# Altium integrated library IR Rectifier - Ultrafast Recovery.IntLib: 68 symbols (part 1 of 2)
Pins are listed as number, name and electrical type; pins without a type are passive.

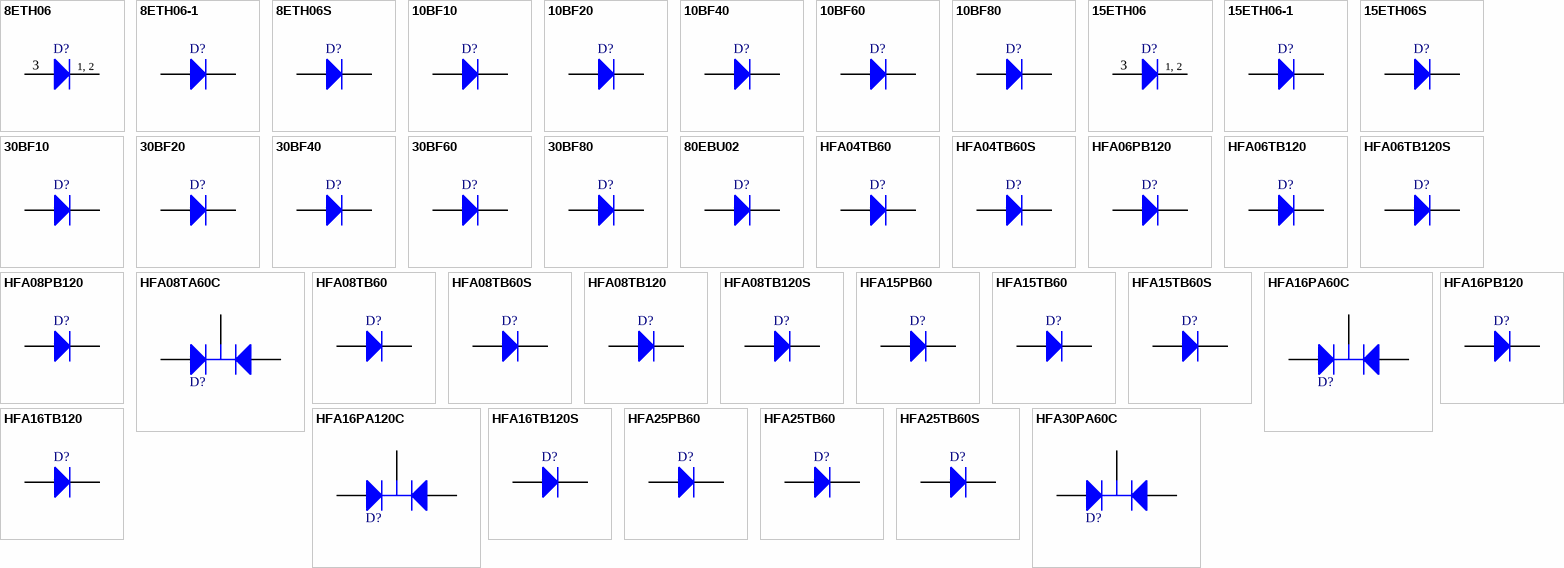
[diagram p0: symbols 8ETH06 to HFA30PA60C]

## 8ETH06
designator D?
Hyperfast Rectifier; Published: 17-Sep-2003; DatasheetVersion: Aug-2001; PackageVersion: Feb-1998; PackageReference: TO-220AC; Publisher: Altium Limited; PackageDescription: TO, Thru-Hole, Vertical, Heatsink Mounted; 3 In-Line Leads (1 Absent); Pitch 2.54 mm; ComponentLink1Description: Manufacturer Link; ComponentLink1URL: http://www.irf.com/; ComponentLink2Description: Datasheet; ComponentLink2URL: http://www.irf.com/product-info/datasheets/data/8ETH06.pdf
footprint TO-220AC (TO, Thru-Hole, Vertical, Heatsink Mounted; 3 In-Line Leads (1 Absent); Pitch 2.54 mm)
simulation model 8ETH06 (DIODE)
pins: 1 K, 2 K, 3 A
text: 1, 2

## 8ETH06-1
designator D?
Hyperfast Rectifier; Note: Pin 1 is not connected and not drawn; Published: 17-Sep-2003; DatasheetVersion: Aug-2001; PackageReference: TO-262; Publisher: Altium Limited; PackageDescription: TO, Thru-Hole, Vertical, Heatsink Mounted; 3 In-Line Leads; Pitch 2.54 mm; ComponentLink1Description: Manufacturer Link; ComponentLink1URL: http://www.irf.com/; ComponentLink2Description: Datasheet; ComponentLink2URL: http://www.irf.com/product-info/datasheets/data/8ETH06.pdf
footprint TO-262 (TO, Thru-Hole, Vertical, Heatsink Mounted; 3 In-Line Leads; Pitch 2.54 mm)
pins: 2 K, 3 A

## 8ETH06S
designator D?
Hyperfast Rectifier; Note: Pin 1 is not connected and not drawn; Published: 17-Sep-2003; DatasheetVersion: Aug-2001; PackageReference: D2PAK; Publisher: Altium Limited; PackageDescription: 3-Pin Transistor Outline Package 2.54 mm Pitch, 15.1 mm Lead Span; ComponentLink1Description: Manufacturer Link; ComponentLink1URL: http://www.irf.com/; ComponentLink2Description: Datasheet; ComponentLink2URL: http://www.irf.com/product-info/datasheets/data/8ETH06.pdf
footprint D2PAK_N (D2-PAK, 4-Leads, Body 8.8x10.4mm, Pitch 2.54mm, Lead Span 15.1mm, IPC Medium Density)
footprint D2PAK_L (D2-PAK, 4-Leads, Body 8.8x10.4mm, Pitch 2.54mm, Lead Span 15.1mm, IPC High Density)
footprint D2PAK_M (D2-PAK, 4-Leads, Body 8.8x10.4mm, Pitch 2.54mm, Lead Span 15.1mm, IPC Low Density)
pins: 2 K, 3 A

## 10BF10
designator D?
Surface Mountable Ultrafast Recovery Diode; Published: 8-Jun-2000; LatestRevisionDate: 17-Jul-2002; LatestRevisionNote: Re-released for DXP Platform.; DatasheetVersion: Jun-1999; PackageReference: SMB; Publisher: Altium Limited; PackageDescription: DO-214-AA/SMB; 2 C-Bend Leads; Body 5.3 x 3.6 mm, inc. leads (LxW); ComponentLink1Description: Manufacturer Link; ComponentLink1URL: http://www.irf.com/; ComponentLink2Description: Datasheet; ComponentLink2URL: http://www.irf.com/product-info/datasheets/data/10bf.pdf
footprint SMB (DO-214-AA/SMB; 2 C-Bend Leads; Body 5.3 x 3.6 mm, inc. leads (LxW))
signal-integrity model 10BF10
pins: 1 A, 2 K

## 10BF20
designator D?
Surface Mountable Ultrafast Recovery Diode; Published: 8-Jun-2000; LatestRevisionDate: 17-Jul-2002; LatestRevisionNote: Re-released for DXP Platform.; DatasheetVersion: Jun-1999; PackageReference: SMB; Publisher: Altium Limited; PackageDescription: DO-214-AA/SMB; 2 C-Bend Leads; Body 5.3 x 3.6 mm, inc. leads (LxW); ComponentLink1Description: Manufacturer Link; ComponentLink1URL: http://www.irf.com/; ComponentLink2Description: Datasheet; ComponentLink2URL: http://www.irf.com/product-info/datasheets/data/10bf.pdf
footprint SMB (DO-214-AA/SMB; 2 C-Bend Leads; Body 5.3 x 3.6 mm, inc. leads (LxW))
signal-integrity model 10BF20
pins: 1 A, 2 K

## 10BF40
designator D?
Surface Mountable Ultrafast Recovery Diode; Published: 8-Jun-2000; LatestRevisionDate: 17-Jul-2002; LatestRevisionNote: Re-released for DXP Platform.; DatasheetVersion: Jun-1999; PackageReference: SMB; Publisher: Altium Limited; PackageDescription: DO-214-AA/SMB; 2 C-Bend Leads; Body 5.3 x 3.6 mm, inc. leads (LxW); ComponentLink1Description: Manufacturer Link; ComponentLink1URL: http://www.irf.com/; ComponentLink2Description: Datasheet; ComponentLink2URL: http://www.irf.com/product-info/datasheets/data/10bf.pdf
footprint SMB (DO-214-AA/SMB; 2 C-Bend Leads; Body 5.3 x 3.6 mm, inc. leads (LxW))
signal-integrity model 10BF40
pins: 1 A, 2 K

## 10BF60
designator D?
Surface Mountable Ultrafast Recovery Diode; Published: 8-Jun-2000; LatestRevisionDate: 17-Jul-2002; LatestRevisionNote: Re-released for DXP Platform.; DatasheetVersion: Jun-1999; PackageReference: SMB; Publisher: Altium Limited; PackageDescription: DO-214-AA/SMB; 2 C-Bend Leads; Body 5.3 x 3.6 mm, inc. leads (LxW); ComponentLink1Description: Manufacturer Link; ComponentLink1URL: http://www.irf.com/; ComponentLink2Description: Datasheet; ComponentLink2URL: http://www.irf.com/product-info/datasheets/data/10bf.pdf
footprint SMB (DO-214-AA/SMB; 2 C-Bend Leads; Body 5.3 x 3.6 mm, inc. leads (LxW))
signal-integrity model 10BF60
pins: 1 A, 2 K

## 10BF80
designator D?
Surface Mountable Ultrafast Recovery Diode; Published: 8-Jun-2000; LatestRevisionDate: 17-Jul-2002; LatestRevisionNote: Re-released for DXP Platform.; DatasheetVersion: Jun-1999; PackageReference: SMB; Publisher: Altium Limited; PackageDescription: DO-214-AA/SMB; 2 C-Bend Leads; Body 5.3 x 3.6 mm, inc. leads (LxW); ComponentLink1Description: Manufacturer Link; ComponentLink1URL: http://www.irf.com/; ComponentLink2Description: Datasheet; ComponentLink2URL: http://www.irf.com/product-info/datasheets/data/10bf.pdf
footprint SMB (DO-214-AA/SMB; 2 C-Bend Leads; Body 5.3 x 3.6 mm, inc. leads (LxW))
signal-integrity model 10BF80
pins: 1 A, 2 K

## 15ETH06
designator D?
Hyperfast Rectifier; Published: 17-Sep-2003; DatasheetVersion: Aug-2001; PackageVersion: Feb-1998; PackageReference: TO-220AC; Publisher: Altium Limited; PackageDescription: TO, Thru-Hole, Vertical, Heatsink Mounted; 3 In-Line Leads (1 Absent); Pitch 2.54 mm; ComponentLink1Description: Manufacturer Link; ComponentLink1URL: http://www.irf.com/; ComponentLink2Description: Datasheet; ComponentLink2URL: http://www.irf.com/product-info/datasheets/data/15ETH06.pdf
footprint TO-220AC (TO, Thru-Hole, Vertical, Heatsink Mounted; 3 In-Line Leads (1 Absent); Pitch 2.54 mm)
simulation model 15ETH06 (DIODE)
pins: 1 K, 2 K, 3 A
text: 1, 2

## 15ETH06-1
designator D?
Hyperfast Rectifier; Note: Pin 1 is not connected and not drawn; Published: 17-Sep-2003; DatasheetVersion: Rev. D, 1/08/2001; PackageReference: TO-262; Publisher: Altium Limited; PackageDescription: TO, Thru-Hole, Vertical, Heatsink Mounted; 3 In-Line Leads; Pitch 2.54 mm; ComponentLink1Description: Manufacturer Link; ComponentLink1URL: http://www.irf.com/; ComponentLink2Description: Datasheet; ComponentLink2URL: http://www.irf.com/product-info/datasheets/data/15ETH06.pdf
footprint TO-262 (TO, Thru-Hole, Vertical, Heatsink Mounted; 3 In-Line Leads; Pitch 2.54 mm)
pins: 2 K, 3 A

## 15ETH06S
designator D?
Hyperfast Rectifier; Note: Pin 1 is not connected and not drawn; Published: 17-Sep-2003; DatasheetVersion: Rev. D, 1/08/2001; PackageReference: D2PAK; Publisher: Altium Limited; PackageDescription: 3-Pin Transistor Outline Package 2.54 mm Pitch, 15.1 mm Lead Span; ComponentLink1Description: Manufacturer Link; ComponentLink1URL: http://www.irf.com/; ComponentLink2Description: Datasheet; ComponentLink2URL: http://www.irf.com/product-info/datasheets/data/15ETH06.pdf
footprint D2PAK_N (D2-PAK, 4-Leads, Body 8.8x10.4mm, Pitch 2.54mm, Lead Span 15.1mm, IPC Medium Density)
footprint D2PAK_L (D2-PAK, 4-Leads, Body 8.8x10.4mm, Pitch 2.54mm, Lead Span 15.1mm, IPC High Density)
footprint D2PAK_M (D2-PAK, 4-Leads, Body 8.8x10.4mm, Pitch 2.54mm, Lead Span 15.1mm, IPC Low Density)
pins: 2 K, 3 A

## 30BF10
designator D?
Surface Mountable Ultrafast Recovery Diode; Published: 8-Jun-2000; LatestRevisionDate: 17-Jul-2002; LatestRevisionNote: Re-released for DXP Platform.; DatasheetVersion: Jul-1999; PackageReference: SMC; Publisher: Altium Limited; PackageDescription: DO-214-AB/SMC; 2 C-Bend Leads; Body 7.9 x 5.9 mm, inc. leads (LxW); Code_JEDEC: DO-214-AB; ComponentLink1Description: Manufacturer Link; ComponentLink1URL: http://www.irf.com/; ComponentLink2Description: Datasheet; ComponentLink2URL: http://www.irf.com/product-info/datasheets/data/30bf.pdf
footprint SMC (DO-214-AB/SMC; 2 C-Bend Leads; Body 7.9 x 5.9 mm, inc. leads (LxW))
signal-integrity model 30BF10
pins: 1 A, 2 K

## 30BF20
designator D?
Surface Mountable Ultrafast Recovery Diode; Published: 8-Jun-2000; LatestRevisionDate: 17-Jul-2002; LatestRevisionNote: Re-released for DXP Platform.; DatasheetVersion: Jul-1999; PackageReference: SMC; Publisher: Altium Limited; PackageDescription: DO-214-AB/SMC; 2 C-Bend Leads; Body 7.9 x 5.9 mm, inc. leads (LxW); Code_JEDEC: DO-214-AB; ComponentLink1Description: Manufacturer Link; ComponentLink1URL: http://www.irf.com/; ComponentLink2Description: Datasheet; ComponentLink2URL: http://www.irf.com/product-info/datasheets/data/30bf.pdf
footprint SMC (DO-214-AB/SMC; 2 C-Bend Leads; Body 7.9 x 5.9 mm, inc. leads (LxW))
signal-integrity model 30BF20
pins: 1 A, 2 K

## 30BF40
designator D?
Surface Mountable Ultrafast Recovery Diode; Published: 8-Jun-2000; LatestRevisionDate: 17-Jul-2002; LatestRevisionNote: Re-released for DXP Platform.; DatasheetVersion: Jul-1999; PackageReference: SMC; Publisher: Altium Limited; PackageDescription: DO-214-AB/SMC; 2 C-Bend Leads; Body 7.9 x 5.9 mm, inc. leads (LxW); Code_JEDEC: DO-214-AB; ComponentLink1Description: Manufacturer Link; ComponentLink1URL: http://www.irf.com/; ComponentLink2Description: Datasheet; ComponentLink2URL: http://www.irf.com/product-info/datasheets/data/30bf.pdf
footprint SMC (DO-214-AB/SMC; 2 C-Bend Leads; Body 7.9 x 5.9 mm, inc. leads (LxW))
signal-integrity model 30BF40
pins: 1 A, 2 K

## 30BF60
designator D?
Surface Mountable Ultrafast Recovery Diode; Published: 8-Jun-2000; LatestRevisionDate: 17-Jul-2002; LatestRevisionNote: Re-released for DXP Platform.; DatasheetVersion: Jul-1999; PackageReference: SMC; Publisher: Altium Limited; PackageDescription: DO-214-AB/SMC; 2 C-Bend Leads; Body 7.9 x 5.9 mm, inc. leads (LxW); Code_JEDEC: DO-214-AB; ComponentLink1Description: Manufacturer Link; ComponentLink1URL: http://www.irf.com/; ComponentLink2Description: Datasheet; ComponentLink2URL: http://www.irf.com/product-info/datasheets/data/30bf.pdf
footprint SMC (DO-214-AB/SMC; 2 C-Bend Leads; Body 7.9 x 5.9 mm, inc. leads (LxW))
signal-integrity model 30BF60
pins: 1 A, 2 K

## 30BF80
designator D?
Surface Mountable Ultrafast Recovery Diode; Published: 8-Jun-2000; LatestRevisionDate: 17-Jul-2002; LatestRevisionNote: Re-released for DXP Platform.; DatasheetVersion: Jul-1999; PackageReference: SMC; Publisher: Altium Limited; PackageDescription: DO-214-AB/SMC; 2 C-Bend Leads; Body 7.9 x 5.9 mm, inc. leads (LxW); Code_JEDEC: DO-214-AB; ComponentLink1Description: Manufacturer Link; ComponentLink1URL: http://www.irf.com/; ComponentLink2Description: Datasheet; ComponentLink2URL: http://www.irf.com/product-info/datasheets/data/30bf.pdf
footprint SMC (DO-214-AB/SMC; 2 C-Bend Leads; Body 7.9 x 5.9 mm, inc. leads (LxW))
signal-integrity model 30BF80
pins: 1 A, 2 K

## 80EBU02
designator D?
Ultrafast, Soft Recovery Diode; Published: 17-Sep-2003; DatasheetVersion: Jan-2001; PackageReference: PowIRtab; Publisher: Altium Limited; ComponentLink1Description: Manufacturer Link; ComponentLink1URL: http://www.irf.com/; ComponentLink2Description: Datasheet; ComponentLink2URL: http://www.irf.com/product-info/datasheets/data/80EBU02.pdf
simulation model 80EBU02 (DIODE)
pins: 1 K, 2 A

## HFA04TB60
designator D?
Ultrafast, Soft Recovery Diode; Note: Terminal 2 is the TAB and is electrically connected to the cathode; Published: 8-Jun-2000; LatestRevisionDate: 17-Jul-2002; LatestRevisionNote: Re-released for DXP Platform.; DatasheetVersion: Apr-1997; PackageVersion: Feb-1998; PackageReference: TO-220AC; Publisher: Altium Limited; PackageDescription: TO, Thru-Hole, Vertical, Heatsink Mounted; 3 In-Line Leads (1 Absent); Pitch 2.54 mm; ComponentLink1Description: Manufacturer Link; ComponentLink1URL: http://www.irf.com/; ComponentLink2Description: Datasheet; ComponentLink2URL: http://www.irf.com/product-info/datasheets/data/hfa04tb60.pdf
footprint TO-220AC (TO, Thru-Hole, Vertical, Heatsink Mounted; 3 In-Line Leads (1 Absent); Pitch 2.54 mm)
simulation model HFA04TB60 (SUBCKT)
signal-integrity model HFA04TB60
pins: 1 K, 3 A

## HFA04TB60S
designator D?
Ultrafast, Soft Recovery Diode; Note: Pin 1 is not connected and not drawn; Published: 8-Jun-2000; LatestRevisionDate: 17-Jul-2002; LatestRevisionNote: Re-released for DXP Platform.; DatasheetVersion: Jan-1999; PackageReference: D2PAK; Publisher: Altium Limited; PackageDescription: 3-Pin Transistor Outline Package 2.54 mm Pitch, 15.1 mm Lead Span; ComponentLink1Description: Manufacturer Link; ComponentLink1URL: http://www.irf.com/; ComponentLink2Description: Datasheet; ComponentLink2URL: http://www.irf.com/product-info/datasheets/data/hfa04tb60s.pdf
footprint D2PAK_N (D2-PAK, 4-Leads, Body 8.8x10.4mm, Pitch 2.54mm, Lead Span 15.1mm, IPC Medium Density)
footprint D2PAK_L (D2-PAK, 4-Leads, Body 8.8x10.4mm, Pitch 2.54mm, Lead Span 15.1mm, IPC High Density)
footprint D2PAK_M (D2-PAK, 4-Leads, Body 8.8x10.4mm, Pitch 2.54mm, Lead Span 15.1mm, IPC Low Density)
signal-integrity model HFA04TB60S
pins: 2 K, 3 A

## HFA06PB120
designator D?
Ultrafast, Soft Recovery Diode; Note: Pin 2 is missing from package and is not drawn; Published: 8-Jun-2000; LatestRevisionDate: 17-Jul-2002; LatestRevisionNote: Re-released for DXP Platform.; DatasheetVersion: Apr-1999; PackageVersion: Sep-1997; PackageReference: TO-247AC_A; Publisher: Altium Limited; PackageDescription: SIP with Mounting Hole; 2 Leads; Body 20 x 15.6 x 5 mm (typ); ComponentLink1Description: Manufacturer Link; ComponentLink1URL: http://www.irf.com/; ComponentLink2Description: Datasheet; ComponentLink2URL: http://www.irf.com/product-info/datasheets/data/hfa06pb120.pdf
footprint TO-247AC_A (SIP with Mounting Hole; 2 Leads; Body 20 x 15.6 x 5 mm (typ))
signal-integrity model HFA06PB120
pins: 1 K, 3 A

## HFA06TB120
designator D?
Ultrafast, Soft Recovery Diode; Note: Terminal 2 is the TAB and is electrically connected to the cathode; Published: 8-Jun-2000; LatestRevisionDate: 17-Jul-2002; LatestRevisionNote: Re-released for DXP Platform.; DatasheetVersion: Apr-1999; PackageVersion: Feb-1998; PackageReference: TO-220AC; Publisher: Altium Limited; PackageDescription: TO, Thru-Hole, Vertical, Heatsink Mounted; 3 In-Line Leads (1 Absent); Pitch 2.54 mm; ComponentLink1Description: Manufacturer Link; ComponentLink1URL: http://www.irf.com/; ComponentLink2Description: Datasheet; ComponentLink2URL: http://www.irf.com/product-info/datasheets/data/hfa06tb120.pdf
footprint TO-220AC (TO, Thru-Hole, Vertical, Heatsink Mounted; 3 In-Line Leads (1 Absent); Pitch 2.54 mm)
simulation model HFA06TB120 (DIODE)
signal-integrity model HFA06TB120
pins: 1 K, 3 A

## HFA06TB120S
designator D?
Ultrafast, Soft Recovery Diode; Note: Pin 1 is not connected and not drawn; Published: 8-Jun-2000; LatestRevisionDate: 17-Jul-2002; LatestRevisionNote: Re-released for DXP Platform.; DatasheetVersion: Jan-1999; PackageReference: D2PAK; Publisher: Altium Limited; PackageDescription: 3-Pin Transistor Outline Package 2.54 mm Pitch, 15.1 mm Lead Span; ComponentLink1Description: Manufacturer Link; ComponentLink1URL: http://www.irf.com/; ComponentLink2Description: Datasheet; ComponentLink2URL: http://www.irf.com/product-info/datasheets/data/hfa06tb120s.pdf
footprint D2PAK_N (D2-PAK, 4-Leads, Body 8.8x10.4mm, Pitch 2.54mm, Lead Span 15.1mm, IPC Medium Density)
footprint D2PAK_L (D2-PAK, 4-Leads, Body 8.8x10.4mm, Pitch 2.54mm, Lead Span 15.1mm, IPC High Density)
footprint D2PAK_M (D2-PAK, 4-Leads, Body 8.8x10.4mm, Pitch 2.54mm, Lead Span 15.1mm, IPC Low Density)
signal-integrity model HFA06TB120S
pins: 2 K, 3 A

## HFA08PB120
designator D?
Ultrafast, Soft Recovery Diode; Note: Pin 2 is missing from package and is not drawn; Published: 8-Jun-2000; LatestRevisionDate: 17-Jul-2002; LatestRevisionNote: Re-released for DXP Platform.; DatasheetVersion: May-1997; PackageVersion: Sep-1997; PackageReference: TO-247AC_A; Publisher: Altium Limited; PackageDescription: SIP with Mounting Hole; 2 Leads; Body 20 x 15.6 x 5 mm (typ); ComponentLink1Description: Manufacturer Link; ComponentLink1URL: http://www.irf.com/; ComponentLink2Description: Datasheet; ComponentLink2URL: http://www.irf.com/product-info/datasheets/data/hfa08pb120.pdf
footprint TO-247AC_A (SIP with Mounting Hole; 2 Leads; Body 20 x 15.6 x 5 mm (typ))
simulation model HFA08PB120 (SUBCKT)
signal-integrity model HFA08PB120
pins: 1 K, 3 A

## HFA08TA60C
designator D?
Ultrafast, Soft Recovery Diode; Published: 8-Jun-2000; LatestRevisionDate: 17-Jul-2002; LatestRevisionNote: Re-released for DXP Platform.; DatasheetVersion: Apr-1997; PackageVersion: Feb-1997; PackageReference: TO-220AB; Publisher: Altium Limited; PackageDescription: TO, Thru-Hole, Vertical, Heatsink Mounted; 3 In-Line Leads; Pitch 2.54 mm; ComponentLink1Description: Manufacturer Link; ComponentLink1URL: http://www.irf.com/; ComponentLink2Description: Datasheet; ComponentLink2URL: http://www.irf.com/product-info/datasheets/data/hfa08ta60c.pdf
footprint TO-220AB (TO, Thru-Hole, Vertical, Heatsink Mounted; 3 In-Line Leads; Pitch 2.54 mm)
signal-integrity model HFA08TA60C
pins: 1 A1, 2 K, 3 A2

## HFA08TB60
designator D?
Ultrafast, Soft Recovery Diode; Note: Terminal 2 is the TAB and is electrically connected to the cathode; Published: 8-Jun-2000; LatestRevisionDate: 17-Jul-2002; LatestRevisionNote: Re-released for DXP Platform.; DatasheetVersion: Apr-1997; PackageVersion: Feb-1998; PackageReference: TO-220AC; Publisher: Altium Limited; PackageDescription: TO, Thru-Hole, Vertical, Heatsink Mounted; 3 In-Line Leads (1 Absent); Pitch 2.54 mm; ComponentLink1Description: Manufacturer Link; ComponentLink1URL: http://www.irf.com/; ComponentLink2Description: Datasheet; ComponentLink2URL: http://www.irf.com/product-info/datasheets/data/hfa08tb60.pdf
footprint TO-220AC (TO, Thru-Hole, Vertical, Heatsink Mounted; 3 In-Line Leads (1 Absent); Pitch 2.54 mm)
simulation model HFA08TB60 (DIODE)
signal-integrity model HFA08TB60
pins: 1 K, 3 A

## HFA08TB60S
designator D?
Ultrafast, Soft Recovery Diode; Note: Pin 1 is not connected and not drawn; Published: 8-Jun-2000; LatestRevisionDate: 17-Jul-2002; LatestRevisionNote: Re-released for DXP Platform.; DatasheetVersion: Jan-1999; PackageReference: D2PAK; Publisher: Altium Limited; PackageDescription: 3-Pin Transistor Outline Package 2.54 mm Pitch, 15.1 mm Lead Span; ComponentLink1Description: Manufacturer Link; ComponentLink1URL: http://www.irf.com/; ComponentLink2Description: Datasheet; ComponentLink2URL: http://www.irf.com/product-info/datasheets/data/hfa08tb60s.pdf
footprint D2PAK_N (D2-PAK, 4-Leads, Body 8.8x10.4mm, Pitch 2.54mm, Lead Span 15.1mm, IPC Medium Density)
footprint D2PAK_L (D2-PAK, 4-Leads, Body 8.8x10.4mm, Pitch 2.54mm, Lead Span 15.1mm, IPC High Density)
footprint D2PAK_M (D2-PAK, 4-Leads, Body 8.8x10.4mm, Pitch 2.54mm, Lead Span 15.1mm, IPC Low Density)
signal-integrity model HFA08TB60S
pins: 2 K, 3 A

## HFA08TB120
designator D?
Ultrafast, Soft Recovery Diode; Note: Terminal 2 is the TAB and is electrically connected to the cathode; Published: 8-Jun-2000; LatestRevisionDate: 17-Jul-2002; LatestRevisionNote: Re-released for DXP Platform.; DatasheetVersion: May-1997; PackageVersion: Feb-1998; PackageReference: TO-220AC; Publisher: Altium Limited; PackageDescription: TO, Thru-Hole, Vertical, Heatsink Mounted; 3 In-Line Leads (1 Absent); Pitch 2.54 mm; ComponentLink1Description: Manufacturer Link; ComponentLink1URL: http://www.irf.com/; ComponentLink2Description: Datasheet; ComponentLink2URL: http://www.irf.com/product-info/datasheets/data/hfa08tb120.pdf
footprint TO-220AC (TO, Thru-Hole, Vertical, Heatsink Mounted; 3 In-Line Leads (1 Absent); Pitch 2.54 mm)
signal-integrity model HFA08TB120
pins: 1 K, 3 A

## HFA08TB120S
designator D?
Ultrafast, Soft Recovery Diode; Note: Pin 1 is not connected and not drawn; Published: 8-Jun-2000; LatestRevisionDate: 17-Jul-2002; LatestRevisionNote: Re-released for DXP Platform.; DatasheetVersion: Jan-1999; PackageReference: D2PAK; Publisher: Altium Limited; PackageDescription: 3-Pin Transistor Outline Package 2.54 mm Pitch, 15.1 mm Lead Span; ComponentLink1Description: Manufacturer Link; ComponentLink1URL: http://www.irf.com/; ComponentLink2Description: Datasheet; ComponentLink2URL: http://www.irf.com/product-info/datasheets/data/hfa08tb120s.pdf
footprint D2PAK_N (D2-PAK, 4-Leads, Body 8.8x10.4mm, Pitch 2.54mm, Lead Span 15.1mm, IPC Medium Density)
footprint D2PAK_L (D2-PAK, 4-Leads, Body 8.8x10.4mm, Pitch 2.54mm, Lead Span 15.1mm, IPC High Density)
footprint D2PAK_M (D2-PAK, 4-Leads, Body 8.8x10.4mm, Pitch 2.54mm, Lead Span 15.1mm, IPC Low Density)
signal-integrity model HFA08TB120S
pins: 2 K, 3 A

## HFA15PB60
designator D?
Ultrafast, Soft Recovery Diode; Note: Pin 2 is missing from package and is not drawn; Published: 8-Jun-2000; LatestRevisionDate: 17-Jul-2002; LatestRevisionNote: Re-released for DXP Platform.; DatasheetVersion: Apr-1997; PackageVersion: Sep-1997; PackageReference: TO-247AC_A; Publisher: Altium Limited; PackageDescription: SIP with Mounting Hole; 2 Leads; Body 20 x 15.6 x 5 mm (typ); ComponentLink1Description: Manufacturer Link; ComponentLink1URL: http://www.irf.com/; ComponentLink2Description: Datasheet; ComponentLink2URL: http://www.irf.com/product-info/datasheets/data/hfa15pb60.pdf
footprint TO-247AC_A (SIP with Mounting Hole; 2 Leads; Body 20 x 15.6 x 5 mm (typ))
simulation model HFA15PB60 (DIODE)
signal-integrity model HFA15PB60
pins: 1 K, 3 A

## HFA15TB60
designator D?
Ultrafast, Soft Recovery Diode; Note: Terminal 2 is the TAB and is electrically connected to the cathode; Published: 8-Jun-2000; LatestRevisionDate: 17-Jul-2002; LatestRevisionNote: Re-released for DXP Platform.; DatasheetVersion: Apr-1997; PackageVersion: Feb-1998; PackageReference: TO-220AC; Publisher: Altium Limited; PackageDescription: TO, Thru-Hole, Vertical, Heatsink Mounted; 3 In-Line Leads (1 Absent); Pitch 2.54 mm; ComponentLink1Description: Manufacturer Link; ComponentLink1URL: http://www.irf.com/; ComponentLink2Description: Datasheet; ComponentLink2URL: http://www.irf.com/product-info/datasheets/data/hfa15tb60.pdf
footprint TO-220AC (TO, Thru-Hole, Vertical, Heatsink Mounted; 3 In-Line Leads (1 Absent); Pitch 2.54 mm)
simulation model HFA15TB60 (SUBCKT)
signal-integrity model HFA15TB60
pins: 1 K, 3 A

## HFA15TB60S
designator D?
Ultrafast, Soft Recovery Diode; Note: Pin 1 is not connected and not drawn; Published: 8-Jun-2000; LatestRevisionDate: 17-Jul-2002; LatestRevisionNote: Re-released for DXP Platform.; DatasheetVersion: Jan-1999; PackageReference: D2PAK; Publisher: Altium Limited; PackageDescription: 3-Pin Transistor Outline Package 2.54 mm Pitch, 15.1 mm Lead Span; ComponentLink1Description: Manufacturer Link; ComponentLink1URL: http://www.irf.com/; ComponentLink2Description: Datasheet; ComponentLink2URL: http://www.irf.com/product-info/datasheets/data/hfa15tb60s.pdf
footprint D2PAK_N (D2-PAK, 4-Leads, Body 8.8x10.4mm, Pitch 2.54mm, Lead Span 15.1mm, IPC Medium Density)
footprint D2PAK_L (D2-PAK, 4-Leads, Body 8.8x10.4mm, Pitch 2.54mm, Lead Span 15.1mm, IPC High Density)
footprint D2PAK_M (D2-PAK, 4-Leads, Body 8.8x10.4mm, Pitch 2.54mm, Lead Span 15.1mm, IPC Low Density)
signal-integrity model HFA15TB60S
pins: 2 K, 3 A

## HFA16PA60C
designator D?
Ultrafast, Soft Recovery Diode; Published: 8-Jun-2000; LatestRevisionDate: 17-Jul-2002; LatestRevisionNote: Re-released for DXP Platform.; DatasheetVersion: Apr-1997; PackageVersion: Aug-1997; PackageReference: TO-247AC; Publisher: Altium Limited; PackageDescription: SIP with Mounting Hole; 3 Leads; Body 20 x 15.6 x 5 mm (typ); Pitch 5.45 mm; Code_JEDEC: TO-247-AC; ComponentLink1Description: Manufacturer Link; ComponentLink1URL: http://www.irf.com/; ComponentLink2Description: Datasheet; ComponentLink2URL: http://www.irf.com/product-info/datasheets/data/hfa16pa60c.pdf
footprint TO-247AC (SIP with Mounting Hole; 3 Leads; Body 20 x 15.6 x 5 mm (typ); Pitch 5.45 mm)
signal-integrity model HFA16PA60C
pins: 1 A1, 2 K, 3 A2

## HFA16PA120C
designator D?
Ultrafast, Soft Recovery Diode; Published: 8-Jun-2000; LatestRevisionDate: 17-Jul-2002; LatestRevisionNote: Re-released for DXP Platform.; DatasheetVersion: PD-2.361; PackageVersion: Aug-1997; PackageReference: TO-247AC; Publisher: Altium Limited; PackageDescription: SIP with Mounting Hole; 3 Leads; Body 20 x 15.6 x 5 mm (typ); Pitch 5.45 mm; Code_JEDEC: TO-247-AC; ComponentLink1Description: Manufacturer Link; ComponentLink1URL: http://www.irf.com/; ComponentLink2Description: Datasheet; ComponentLink2URL: http://www.irf.com/product-info/datasheets/data/hfa16pa120c.pdf
footprint TO-247AC (SIP with Mounting Hole; 3 Leads; Body 20 x 15.6 x 5 mm (typ); Pitch 5.45 mm)
signal-integrity model HFA16PA120C
pins: 1 A1, 2 K, 3 A2

## HFA16PB120
designator D?
Ultrafast, Soft Recovery Diode; Note: Pin 2 is missing from package and is not drawn; Published: 8-Jun-2000; LatestRevisionDate: 17-Jul-2002; LatestRevisionNote: Re-released for DXP Platform.; DatasheetVersion: May-1997; PackageVersion: Sep-1997; PackageReference: TO-247AC_A; Publisher: Altium Limited; PackageDescription: SIP with Mounting Hole; 2 Leads; Body 20 x 15.6 x 5 mm (typ); ComponentLink1Description: Manufacturer Link; ComponentLink1URL: http://www.irf.com/; ComponentLink2Description: Datasheet; ComponentLink2URL: http://www.irf.com/product-info/datasheets/data/hfa16pb120.pdf
footprint TO-247AC_A (SIP with Mounting Hole; 2 Leads; Body 20 x 15.6 x 5 mm (typ))
simulation model HFA16PB120 (SUBCKT)
signal-integrity model HFA16PB120
pins: 1 K, 3 A

## HFA16TB120
designator D?
Ultrafast, Soft Recovery Diode; Note: Terminal 2 is the TAB and is electrically connected to the cathode; Published: 8-Jun-2000; LatestRevisionDate: 17-Jul-2002; LatestRevisionNote: Re-released for DXP Platform.; DatasheetVersion: May-1997; PackageVersion: Feb-1998; PackageReference: TO-220AC; Publisher: Altium Limited; PackageDescription: TO, Thru-Hole, Vertical, Heatsink Mounted; 3 In-Line Leads (1 Absent); Pitch 2.54 mm; ComponentLink1Description: Manufacturer Link; ComponentLink1URL: http://www.irf.com/; ComponentLink2Description: Datasheet; ComponentLink2URL: http://www.irf.com/product-info/datasheets/data/hfa16tb120.pdf
footprint TO-220AC (TO, Thru-Hole, Vertical, Heatsink Mounted; 3 In-Line Leads (1 Absent); Pitch 2.54 mm)
signal-integrity model HFA16TB120
pins: 1 K, 3 A

## HFA16TB120S
designator D?
Ultrafast, Soft Recovery Diode; Note: Pin 1 is not connected and not drawn; Published: 8-Jun-2000; LatestRevisionDate: 17-Jul-2002; LatestRevisionNote: Re-released for DXP Platform.; DatasheetVersion: Jan-1999; PackageReference: D2PAK; Publisher: Altium Limited; PackageDescription: 3-Pin Transistor Outline Package 2.54 mm Pitch, 15.1 mm Lead Span; ComponentLink1Description: Manufacturer Link; ComponentLink1URL: http://www.irf.com/; ComponentLink2Description: Datasheet; ComponentLink2URL: http://www.irf.com/product-info/datasheets/data/hfa16tb120s.pdf
footprint D2PAK_N (D2-PAK, 4-Leads, Body 8.8x10.4mm, Pitch 2.54mm, Lead Span 15.1mm, IPC Medium Density)
footprint D2PAK_L (D2-PAK, 4-Leads, Body 8.8x10.4mm, Pitch 2.54mm, Lead Span 15.1mm, IPC High Density)
footprint D2PAK_M (D2-PAK, 4-Leads, Body 8.8x10.4mm, Pitch 2.54mm, Lead Span 15.1mm, IPC Low Density)
signal-integrity model HFA16TB120S
pins: 2 K, 3 A

## HFA25PB60
designator D?
Ultrafast, Soft Recovery Diode; Note: Pin 2 is missing from package and is not drawn; Published: 8-Jun-2000; LatestRevisionDate: 17-Jul-2002; LatestRevisionNote: Re-released for DXP Platform.; DatasheetVersion: Apr-1997; PackageVersion: Sep-1997; PackageReference: TO-247AC_A; Publisher: Altium Limited; PackageDescription: SIP with Mounting Hole; 2 Leads; Body 20 x 15.6 x 5 mm (typ); ComponentLink1Description: Manufacturer Link; ComponentLink1URL: http://www.irf.com/; ComponentLink2Description: Datasheet; ComponentLink2URL: http://www.irf.com/product-info/datasheets/data/hfa25pb60.pdf
footprint TO-247AC_A (SIP with Mounting Hole; 2 Leads; Body 20 x 15.6 x 5 mm (typ))
signal-integrity model HFA25PB60
pins: 1 K, 3 A

## HFA25TB60
designator D?
Ultrafast, Soft Recovery Diode; Note: Terminal 2 is the TAB and is electrically connected to the cathode; Published: 8-Jun-2000; LatestRevisionDate: 17-Jul-2002; LatestRevisionNote: Re-released for DXP Platform.; DatasheetVersion: Apr-1997; PackageVersion: Feb-1998; PackageReference: TO-220AC; Publisher: Altium Limited; PackageDescription: TO, Thru-Hole, Vertical, Heatsink Mounted; 3 In-Line Leads (1 Absent); Pitch 2.54 mm; ComponentLink1Description: Manufacturer Link; ComponentLink1URL: http://www.irf.com/; ComponentLink2Description: Datasheet; ComponentLink2URL: http://www.irf.com/product-info/datasheets/data/hfa25tb60.pdf
footprint TO-220AC (TO, Thru-Hole, Vertical, Heatsink Mounted; 3 In-Line Leads (1 Absent); Pitch 2.54 mm)
simulation model HFA25TB60 (SUBCKT)
signal-integrity model HFA25TB60
pins: 1 K, 3 A

## HFA25TB60S
designator D?
Ultrafast, Soft Recovery Diode; Note: Pin 1 is not connected and not drawn; Published: 8-Jun-2000; LatestRevisionDate: 17-Jul-2002; LatestRevisionNote: Re-released for DXP Platform.; DatasheetVersion: Jan-1999; PackageReference: D2PAK; Publisher: Altium Limited; PackageDescription: 3-Pin Transistor Outline Package 2.54 mm Pitch, 15.1 mm Lead Span; ComponentLink1Description: Manufacturer Link; ComponentLink1URL: http://www.irf.com/; ComponentLink2Description: Datasheet; ComponentLink2URL: http://www.irf.com/product-info/datasheets/data/hfa25tb60s.pdf
footprint D2PAK_N (D2-PAK, 4-Leads, Body 8.8x10.4mm, Pitch 2.54mm, Lead Span 15.1mm, IPC Medium Density)
footprint D2PAK_L (D2-PAK, 4-Leads, Body 8.8x10.4mm, Pitch 2.54mm, Lead Span 15.1mm, IPC High Density)
footprint D2PAK_M (D2-PAK, 4-Leads, Body 8.8x10.4mm, Pitch 2.54mm, Lead Span 15.1mm, IPC Low Density)
signal-integrity model HFA25TB60S
pins: 2 K, 3 A

## HFA30PA60C
designator D?
Ultrafast, Soft Recovery Diode; Published: 8-Jun-2000; LatestRevisionDate: 17-Jul-2002; LatestRevisionNote: Re-released for DXP Platform.; DatasheetVersion: Apr-1998; PackageVersion: Aug-1997; PackageReference: TO-247AC; Publisher: Altium Limited; PackageDescription: SIP with Mounting Hole; 3 Leads; Body 20 x 15.6 x 5 mm (typ); Pitch 5.45 mm; Code_JEDEC: TO-247-AC; ComponentLink1Description: Manufacturer Link; ComponentLink1URL: http://www.irf.com/; ComponentLink2Description: Datasheet; ComponentLink2URL: http://www.irf.com/product-info/datasheets/data/hfa30pa60c.pdf
footprint TO-247AC (SIP with Mounting Hole; 3 Leads; Body 20 x 15.6 x 5 mm (typ); Pitch 5.45 mm)
simulation model HFA30PA60C (SUBCKT)
signal-integrity model HFA30PA60C
pins: 1 A1, 2 K, 3 A2

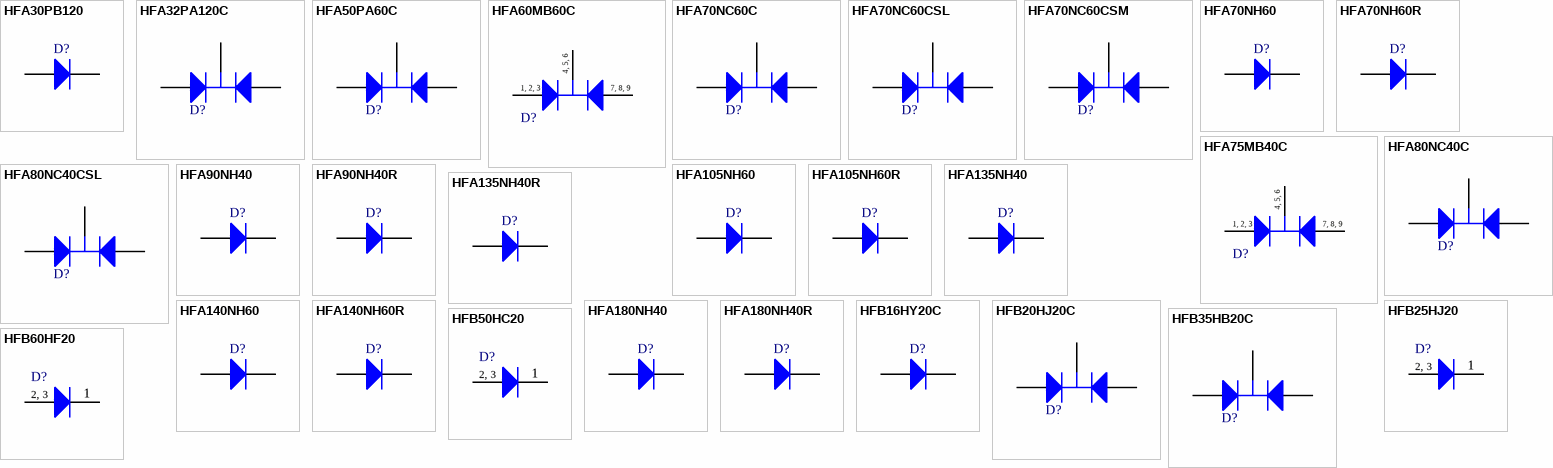
[diagram p1: symbols HFA30PB120 to HFB60HF20]

## HFA30PB120
designator D?
Ultrafast, Soft Recovery Diode; Note: Pin 2 is missing from package and is not drawn; Published: 8-Jun-2000; LatestRevisionDate: 17-Jul-2002; LatestRevisionNote: Re-released for DXP Platform.; DatasheetVersion: May-1997; PackageVersion: Sep-1997; PackageReference: TO-247AC_A; Publisher: Altium Limited; PackageDescription: SIP with Mounting Hole; 2 Leads; Body 20 x 15.6 x 5 mm (typ); ComponentLink1Description: Manufacturer Link; ComponentLink1URL: http://www.irf.com/; ComponentLink2Description: Datasheet; ComponentLink2URL: http://www.irf.com/product-info/datasheets/data/hfa30pb120.pdf
footprint TO-247AC_A (SIP with Mounting Hole; 2 Leads; Body 20 x 15.6 x 5 mm (typ))
signal-integrity model HFA30PB120
pins: 1 K, 3 A

## HFA32PA120C
designator D?
Ultrafast, Soft Recovery Diode; Published: 8-Jun-2000; LatestRevisionDate: 17-Jul-2002; LatestRevisionNote: Re-released for DXP Platform.; DatasheetVersion: PD-2.360; PackageVersion: Aug-1997; PackageReference: TO-247AC; Publisher: Altium Limited; PackageDescription: SIP with Mounting Hole; 3 Leads; Body 20 x 15.6 x 5 mm (typ); Pitch 5.45 mm; Code_JEDEC: TO-247-AC; ComponentLink1Description: Manufacturer Link; ComponentLink1URL: http://www.irf.com/; ComponentLink2Description: Datasheet; ComponentLink2URL: http://www.irf.com/product-info/datasheets/data/hfa32pa120c.pdf
footprint TO-247AC (SIP with Mounting Hole; 3 Leads; Body 20 x 15.6 x 5 mm (typ); Pitch 5.45 mm)
signal-integrity model HFA32PA120C
pins: 1 A1, 2 K, 3 A2

## HFA50PA60C
designator D?
Ultrafast, Soft Recovery Diode; Published: 8-Jun-2000; LatestRevisionDate: 17-Jul-2002; LatestRevisionNote: Re-released for DXP Platform.; DatasheetVersion: PD-2.337; PackageVersion: Aug-1997; PackageReference: TO-247AC; Publisher: Altium Limited; PackageDescription: SIP with Mounting Hole; 3 Leads; Body 20 x 15.6 x 5 mm (typ); Pitch 5.45 mm; Code_JEDEC: TO-247-AC; ComponentLink1Description: Manufacturer Link; ComponentLink1URL: http://www.irf.com/; ComponentLink2Description: Datasheet; ComponentLink2URL: http://www.irf.com/product-info/datasheets/data/hfa50pa60c.pdf
footprint TO-247AC (SIP with Mounting Hole; 3 Leads; Body 20 x 15.6 x 5 mm (typ); Pitch 5.45 mm)
signal-integrity model HFA50PA60C
pins: 1 A1, 2 K, 3 A2

## HFA60MB60C
designator D?
Ultrafast, Soft Recovery Diode; Published: 8-Jun-2000; LatestRevisionDate: 17-Jul-2002; LatestRevisionNote: Re-released for DXP Platform.; DatasheetVersion: Mar-1999; PackageVersion: Mar-1999; PackageReference: TO-249; Publisher: Altium Limited; PackageDescription: Rectangular Flange Mount, Thru-Hole; 9 Leads; Pitch 3.81 mm; ComponentLink1Description: Manufacturer Link; ComponentLink1URL: http://www.irf.com/; ComponentLink2Description: Datasheet; ComponentLink2URL: http://www.irf.com/product-info/datasheets/data/hfa60mb60c.pdf
footprint TO-249 (Rectangular Flange Mount, Thru-Hole; 9 Leads; Pitch 3.81 mm)
signal-integrity model HFA60MB60C
pins: 1 A1, 2 A1, 3 A1, 4 K, 5 K, 6 K, 7 A2, 8 A2, 9 A2
text: 4, 5, 6; 1, 2, 3; 7, 8, 9

## HFA70NC60C
designator D?
Ultrafast, Soft Recovery Diode; Published: 8-Jun-2000; LatestRevisionDate: 17-Jul-2002; LatestRevisionNote: Re-released for DXP Platform.; DatasheetVersion: Jan-1999; PackageVersion: Jan-1999; PackageReference: D-61-8; Publisher: Altium Limited; PackageDescription: Rectangular Flange Mount, Thru-Hole; 3 Leads; Pitch 5.08 mm; ComponentLink1Description: Manufacturer Link; ComponentLink1URL: http://www.irf.com/; ComponentLink2Description: Datasheet; ComponentLink2URL: http://www.irf.com/product-info/datasheets/data/hfa70nc60c.pdf
footprint D-61-8 (Rectangular Flange Mount, Thru-Hole; 3 Leads; Pitch 5.08 mm)
signal-integrity model HFA70NC60C
pins: 1 A1, 2 K, 3 A2

## HFA70NC60CSL
designator D?
Ultrafast, Soft Recovery Diode; Published: 8-Jun-2000; LatestRevisionDate: 17-Jul-2002; LatestRevisionNote: Re-released for DXP Platform.; DatasheetVersion: Jan-1999; PackageVersion: Jan-1999; PackageReference: D61-8-SL; Publisher: Altium Limited; PackageDescription: 3-Pin Transistor Outline Package 5.08 mm Pitch, 14.1 mm Lead Span; ComponentLink1Description: Manufacturer Link; ComponentLink1URL: http://www.irf.com/; ComponentLink2Description: Datasheet; ComponentLink2URL: http://www.irf.com/product-info/datasheets/data/hfa70nc60csl.pdf
footprint D61-8-SL_N (Single-Ended SM Package, 4-Leads, Body 10.6x16mm, Pitch 5.08mm, Lead Span 14.1mm, IPC Medium Density)
footprint D61-8-SL_L (Single-Ended SM Package, 4-Leads, Body 10.6x16mm, Pitch 5.08mm, Lead Span 14.1mm, IPC High Density)
footprint D61-8-SL_M (Single-Ended SM Package, 4-Leads, Body 10.6x16mm, Pitch 5.08mm, Lead Span 14.1mm, IPC Low Density)
signal-integrity model HFA70NC60CSL
pins: 1 A1, 2 K, 3 A2

## HFA70NC60CSM
designator D?
Ultrafast, Soft Recovery Diode; Published: 8-Jun-2000; LatestRevisionDate: 17-Jul-2002; LatestRevisionNote: Re-released for DXP Platform.; DatasheetVersion: Jan-1999; PackageVersion: Jan-1999; PackageReference: SMD61-8; Publisher: Altium Limited; PackageDescription: Rectangular Flange Mount, Thru-Hole; 3 Leads; Pitch 5.08 mm; ComponentLink1Description: Manufacturer Link; ComponentLink1URL: http://www.irf.com/; ComponentLink2Description: Datasheet; ComponentLink2URL: http://www.irf.com/product-info/datasheets/data/hfa70nc60csm.pdf
footprint SMD61-8 (Rectangular Flange Mount, Thru-Hole; 3 Leads; Pitch 5.08 mm)
signal-integrity model HFA70NC60CSM
pins: 1 A1, 2 K, 3 A2

## HFA70NH60
designator D?
Ultrafast, Soft Recovery Diode; Note: Land pattern features silkscreen outline and mounting holes only.; Published: 8-Jun-2000; LatestRevisionDate: 17-Jul-2002; LatestRevisionNote: Re-released for DXP Platform.; DatasheetVersion: Feb-1999; PackageVersion: Rev. B,  Feb-2001; PackageReference: HALF-PAK; Publisher: Altium Limited; PackageDescription: Half-Pak Module; 1 Lug Terminal, 1 Base Terminal; Body 39.62 x 19.69 x 15.11 mm (LxWxH max); ComponentLink1Description: Manufacturer Link; ComponentLink1URL: http://www.irf.com/; ComponentLink2Description: Datasheet; ComponentLink2URL: http://www.irf.com/product-info/datasheets/data/hfa70nh60.pdf
footprint HALF-PAK (Half-Pak Module; 1 Lug Terminal, 1 Base Terminal; Body 39.62 x 19.69 x 15.11 mm (LxWxH max))
signal-integrity model HFA70NH60
pins: 1 A, 2 K

## HFA70NH60R
designator D?
Ultrafast, Soft Recovery Diode; Note: Land pattern features silkscreen outline and mounting holes only.; Published: 8-Jun-2000; LatestRevisionDate: 17-Jul-2002; LatestRevisionNote: Re-released for DXP Platform.; DatasheetVersion: Feb-1999; PackageVersion: Rev. B,  Feb-2001; PackageReference: HALF-PAK; Publisher: Altium Limited; PackageDescription: Half-Pak Module; 1 Lug Terminal, 1 Base Terminal; Body 39.62 x 19.69 x 15.11 mm (LxWxH max); ComponentLink1Description: Manufacturer Link; ComponentLink1URL: http://www.irf.com/; ComponentLink2Description: Datasheet; ComponentLink2URL: http://www.irf.com/product-info/datasheets/data/hfa70nh60r.pdf
footprint HALF-PAK (Half-Pak Module; 1 Lug Terminal, 1 Base Terminal; Body 39.62 x 19.69 x 15.11 mm (LxWxH max))
signal-integrity model HFA70NH60R
pins: 1 K, 2 A

## HFA75MB40C
designator D?
Ultrafast, Soft Recovery Diode; Published: 8-Jun-2000; LatestRevisionDate: 17-Jul-2002; LatestRevisionNote: Re-released for DXP Platform.; DatasheetVersion: May-1997; PackageVersion: Mar-1999; PackageReference: TO-249; Publisher: Altium Limited; PackageDescription: Rectangular Flange Mount, Thru-Hole; 9 Leads; Pitch 3.81 mm; ComponentLink1Description: Manufacturer Link; ComponentLink1URL: http://www.irf.com/; ComponentLink2Description: Datasheet; ComponentLink2URL: http://www.irf.com/product-info/datasheets/data/hfa75mb40c.pdf
footprint TO-249 (Rectangular Flange Mount, Thru-Hole; 9 Leads; Pitch 3.81 mm)
signal-integrity model HFA75MB40C
pins: 1 A1, 2 A1, 3 A1, 4 K, 5 K, 6 K, 7 A2, 8 A2, 9 A2
text: 4, 5, 6; 1, 2, 3; 7, 8, 9

## HFA80NC40C
designator D?
Ultrafast, Soft Recovery Diode; Published: 8-Jun-2000; LatestRevisionDate: 17-Jul-2002; LatestRevisionNote: Re-released for DXP Platform.; DatasheetVersion: Jan-1999; PackageVersion: Jan-1999; PackageReference: D-61-8; Publisher: Altium Limited; PackageDescription: Rectangular Flange Mount, Thru-Hole; 3 Leads; Pitch 5.08 mm; ComponentLink1Description: Manufacturer Link; ComponentLink1URL: http://www.irf.com/; ComponentLink2Description: Datasheet; ComponentLink2URL: http://www.irf.com/product-info/datasheets/data/hfa80nc40c.pdf
footprint D-61-8 (Rectangular Flange Mount, Thru-Hole; 3 Leads; Pitch 5.08 mm)
signal-integrity model HFA80NC40C
pins: 1 A1, 2 K, 3 A2

## HFA80NC40CSL
designator D?
Ultrafast, Soft Recovery Diode; Published: 8-Jun-2000; LatestRevisionDate: 17-Jul-2002; LatestRevisionNote: Re-released for DXP Platform.; DatasheetVersion: Jan-1999; PackageVersion: Jan-1999; PackageReference: D61-8-SL; Publisher: Altium Limited; PackageDescription: 3-Pin Transistor Outline Package 5.08 mm Pitch, 14.1 mm Lead Span; ComponentLink1Description: Manufacturer Link; ComponentLink1URL: http://www.irf.com/; ComponentLink2Description: Datasheet; ComponentLink2URL: http://www.irf.com/product-info/datasheets/data/hfa80nc40csl.pdf
footprint D61-8-SL_N (Single-Ended SM Package, 4-Leads, Body 10.6x16mm, Pitch 5.08mm, Lead Span 14.1mm, IPC Medium Density)
footprint D61-8-SL_L (Single-Ended SM Package, 4-Leads, Body 10.6x16mm, Pitch 5.08mm, Lead Span 14.1mm, IPC High Density)
footprint D61-8-SL_M (Single-Ended SM Package, 4-Leads, Body 10.6x16mm, Pitch 5.08mm, Lead Span 14.1mm, IPC Low Density)
simulation model HFA80NC40CSL (SUBCKT)
signal-integrity model HFA80NC40CSL
pins: 1 A1, 2 K, 3 A2

## HFA90NH40
designator D?
Ultrafast, Soft Recovery Diode; Note: Land pattern features silkscreen outline and mounting holes only.; Published: 8-Jun-2000; LatestRevisionDate: 17-Jul-2002; LatestRevisionNote: Re-released for DXP Platform.; DatasheetVersion: Feb-1999; PackageVersion: Rev. B,  Feb-2001; PackageReference: HALF-PAK; Publisher: Altium Limited; PackageDescription: Half-Pak Module; 1 Lug Terminal, 1 Base Terminal; Body 39.62 x 19.69 x 15.11 mm (LxWxH max); ComponentLink1Description: Manufacturer Link; ComponentLink1URL: http://www.irf.com/; ComponentLink2Description: Datasheet; ComponentLink2URL: http://www.irf.com/product-info/datasheets/data/hfa90nh40.pdf
footprint HALF-PAK (Half-Pak Module; 1 Lug Terminal, 1 Base Terminal; Body 39.62 x 19.69 x 15.11 mm (LxWxH max))
signal-integrity model HFA90NH40
pins: 1 A, 2 K

## HFA90NH40R
designator D?
Ultrafast, Soft Recovery Diode; Note: Land pattern features silkscreen outline and mounting holes only.; Published: 8-Jun-2000; LatestRevisionDate: 17-Jul-2002; LatestRevisionNote: Re-released for DXP Platform.; DatasheetVersion: Feb-1999; PackageVersion: Rev. B,  Feb-2001; PackageReference: HALF-PAK; Publisher: Altium Limited; PackageDescription: Half-Pak Module; 1 Lug Terminal, 1 Base Terminal; Body 39.62 x 19.69 x 15.11 mm (LxWxH max); ComponentLink1Description: Manufacturer Link; ComponentLink1URL: http://www.irf.com/; ComponentLink2Description: Datasheet; ComponentLink2URL: http://www.irf.com/product-info/datasheets/data/hfa90nh40r.pdf
footprint HALF-PAK (Half-Pak Module; 1 Lug Terminal, 1 Base Terminal; Body 39.62 x 19.69 x 15.11 mm (LxWxH max))
signal-integrity model HFA90NH40R
pins: 1 K, 2 A

## HFA105NH60
designator D?
Ultrafast, Soft Recovery Diode; Note: Land pattern features silkscreen outline and mounting holes only.; Published: 8-Jun-2000; LatestRevisionDate: 17-Jul-2002; LatestRevisionNote: Re-released for DXP Platform.; DatasheetVersion: Feb-1999; PackageVersion: Rev. B,  Feb-2001; PackageReference: HALF-PAK; Publisher: Altium Limited; PackageDescription: Half-Pak Module; 1 Lug Terminal, 1 Base Terminal; Body 39.62 x 19.69 x 15.11 mm (LxWxH max); ComponentLink1Description: Manufacturer Link; ComponentLink1URL: http://www.irf.com/; ComponentLink2Description: Datasheet; ComponentLink2URL: http://www.irf.com/product-info/datasheets/data/hfa105nh60.pdf
footprint HALF-PAK (Half-Pak Module; 1 Lug Terminal, 1 Base Terminal; Body 39.62 x 19.69 x 15.11 mm (LxWxH max))
signal-integrity model HFA105NH60
pins: 1 A, 2 K

## HFA105NH60R
designator D?
Ultrafast, Soft Recovery Diode; Note: Land pattern features silkscreen outline and mounting holes only.; Published: 8-Jun-2000; LatestRevisionDate: 17-Jul-2002; LatestRevisionNote: Re-released for DXP Platform.; DatasheetVersion: Feb-1999; PackageVersion: Rev. B,  Feb-2001; PackageReference: HALF-PAK; Publisher: Altium Limited; PackageDescription: Half-Pak Module; 1 Lug Terminal, 1 Base Terminal; Body 39.62 x 19.69 x 15.11 mm (LxWxH max); ComponentLink1Description: Manufacturer Link; ComponentLink1URL: http://www.irf.com/; ComponentLink2Description: Datasheet; ComponentLink2URL: http://www.irf.com/product-info/datasheets/data/hfa105nh60r.pdf
footprint HALF-PAK (Half-Pak Module; 1 Lug Terminal, 1 Base Terminal; Body 39.62 x 19.69 x 15.11 mm (LxWxH max))
signal-integrity model HFA105NH60R
pins: 1 K, 2 A

## HFA135NH40
designator D?
Ultrafast, Soft Recovery Diode; Note: Land pattern features silkscreen outline and mounting holes only.; Published: 8-Jun-2000; LatestRevisionDate: 17-Jul-2002; LatestRevisionNote: Re-released for DXP Platform.; DatasheetVersion: Mar-1999; PackageVersion: Rev. B,  Feb-2001; PackageReference: HALF-PAK; Publisher: Altium Limited; PackageDescription: Half-Pak Module; 1 Lug Terminal, 1 Base Terminal; Body 39.62 x 19.69 x 15.11 mm (LxWxH max); ComponentLink1Description: Manufacturer Link; ComponentLink1URL: http://www.irf.com/; ComponentLink2Description: Datasheet; ComponentLink2URL: http://www.irf.com/product-info/datasheets/data/hfa135nh40.pdf
footprint HALF-PAK (Half-Pak Module; 1 Lug Terminal, 1 Base Terminal; Body 39.62 x 19.69 x 15.11 mm (LxWxH max))
signal-integrity model HFA135NH40
pins: 1 A, 2 K

## HFA135NH40R
designator D?
Ultrafast, Soft Recovery Diode; Note: Land pattern features silkscreen outline and mounting holes only.; Published: 8-Jun-2000; LatestRevisionDate: 17-Jul-2002; LatestRevisionNote: Re-released for DXP Platform.; DatasheetVersion: Mar-1999; PackageVersion: Rev. B,  Feb-2001; PackageReference: HALF-PAK; Publisher: Altium Limited; PackageDescription: Half-Pak Module; 1 Lug Terminal, 1 Base Terminal; Body 39.62 x 19.69 x 15.11 mm (LxWxH max); ComponentLink1Description: Manufacturer Link; ComponentLink1URL: http://www.irf.com/; ComponentLink2Description: Datasheet; ComponentLink2URL: http://www.irf.com/product-info/datasheets/data/hfa135nh40r.pdf
footprint HALF-PAK (Half-Pak Module; 1 Lug Terminal, 1 Base Terminal; Body 39.62 x 19.69 x 15.11 mm (LxWxH max))
signal-integrity model HFA135NH40R
pins: 1 K, 2 A

## HFA140NH60
designator D?
Ultrafast, Soft Recovery Diode; Note: Land pattern features silkscreen outline and mounting holes only.; Published: 8-Jun-2000; LatestRevisionDate: 17-Jul-2002; LatestRevisionNote: Re-released for DXP Platform.; DatasheetVersion: Mar-1999; PackageVersion: Rev. B,  Feb-2001; PackageReference: HALF-PAK; Publisher: Altium Limited; PackageDescription: Half-Pak Module; 1 Lug Terminal, 1 Base Terminal; Body 39.62 x 19.69 x 15.11 mm (LxWxH max); ComponentLink1Description: Manufacturer Link; ComponentLink1URL: http://www.irf.com/; ComponentLink2Description: Datasheet; ComponentLink2URL: http://www.irf.com/product-info/datasheets/data/hfa140nh60.pdf
footprint HALF-PAK (Half-Pak Module; 1 Lug Terminal, 1 Base Terminal; Body 39.62 x 19.69 x 15.11 mm (LxWxH max))
signal-integrity model HFA140NH60
pins: 1 A, 2 K

## HFA140NH60R
designator D?
Ultrafast, Soft Recovery Diode; Note: Land pattern features silkscreen outline and mounting holes only.; Published: 8-Jun-2000; LatestRevisionDate: 17-Jul-2002; LatestRevisionNote: Re-released for DXP Platform.; DatasheetVersion: Mar-1999; PackageVersion: Rev. B,  Feb-2001; PackageReference: HALF-PAK; Publisher: Altium Limited; PackageDescription: Half-Pak Module; 1 Lug Terminal, 1 Base Terminal; Body 39.62 x 19.69 x 15.11 mm (LxWxH max); ComponentLink1Description: Manufacturer Link; ComponentLink1URL: http://www.irf.com/; ComponentLink2Description: Datasheet; ComponentLink2URL: http://www.irf.com/product-info/datasheets/data/hfa140nh60r.pdf
footprint HALF-PAK (Half-Pak Module; 1 Lug Terminal, 1 Base Terminal; Body 39.62 x 19.69 x 15.11 mm (LxWxH max))
simulation model HFA140NH60R (DIODE)
signal-integrity model HFA140NH60R
pins: 1 K, 2 A

## HFA180NH40
designator D?
Ultrafast, Soft Recovery Diode; Note: Land pattern features silkscreen outline and mounting holes only.; Published: 8-Jun-2000; LatestRevisionDate: 17-Jul-2002; LatestRevisionNote: Re-released for DXP Platform.; DatasheetVersion: Mar-1999; PackageVersion: Rev. B,  Feb-2001; PackageReference: HALF-PAK; Publisher: Altium Limited; PackageDescription: Half-Pak Module; 1 Lug Terminal, 1 Base Terminal; Body 39.62 x 19.69 x 15.11 mm (LxWxH max); ComponentLink1Description: Manufacturer Link; ComponentLink1URL: http://www.irf.com/; ComponentLink2Description: Datasheet; ComponentLink2URL: http://www.irf.com/product-info/datasheets/data/hfa180nh40.pdf
footprint HALF-PAK (Half-Pak Module; 1 Lug Terminal, 1 Base Terminal; Body 39.62 x 19.69 x 15.11 mm (LxWxH max))
signal-integrity model HFA180NH40
pins: 1 A, 2 K

## HFA180NH40R
designator D?
Ultrafast, Soft Recovery Diode; Note: Land pattern features silkscreen outline and mounting holes only.; Published: 8-Jun-2000; LatestRevisionDate: 17-Jul-2002; LatestRevisionNote: Re-released for DXP Platform.; DatasheetVersion: Mar-1999; PackageVersion: Rev. B,  Feb-2001; PackageReference: HALF-PAK; Publisher: Altium Limited; PackageDescription: Half-Pak Module; 1 Lug Terminal, 1 Base Terminal; Body 39.62 x 19.69 x 15.11 mm (LxWxH max); ComponentLink1Description: Manufacturer Link; ComponentLink1URL: http://www.irf.com/; ComponentLink2Description: Datasheet; ComponentLink2URL: http://www.irf.com/product-info/datasheets/data/hfa180nh40r.pdf
footprint HALF-PAK (Half-Pak Module; 1 Lug Terminal, 1 Base Terminal; Body 39.62 x 19.69 x 15.11 mm (LxWxH max))
signal-integrity model HFA180NH40R
pins: 1 K, 2 A

## HFB16HY20C
designator D?
Ultrafast, Soft Recovery Diode; Note: Pin 2 is not connected and not drawn; Published: 17-Sep-2003; DatasheetVersion: 9-Aug-2001; PackageVersion: Aug-2001; PackageReference: TO-257AA; Publisher: Altium Limited; PackageDescription: TO, Thru-Hole, Vertical, Heatsink Mounted; 3 In-Line Leads; Pitch 2.54 mm; ComponentLink1Description: Manufacturer Link; ComponentLink1URL: http://www.irf.com/; ComponentLink2Description: Datasheet; ComponentLink2URL: http://www.irf.com/product-info/datasheets/data/HFB16HY20C.pdf
footprint TO-257AA (TO, Thru-Hole, Vertical, Heatsink Mounted; 3 In-Line Leads; Pitch 2.54 mm)
simulation model HFB16HY20C (DIODE)
pins: 1 K, 3 A